# EAGLE library part 6N137 (library _motovilo)
MOTOROLA OPTO COUPLER
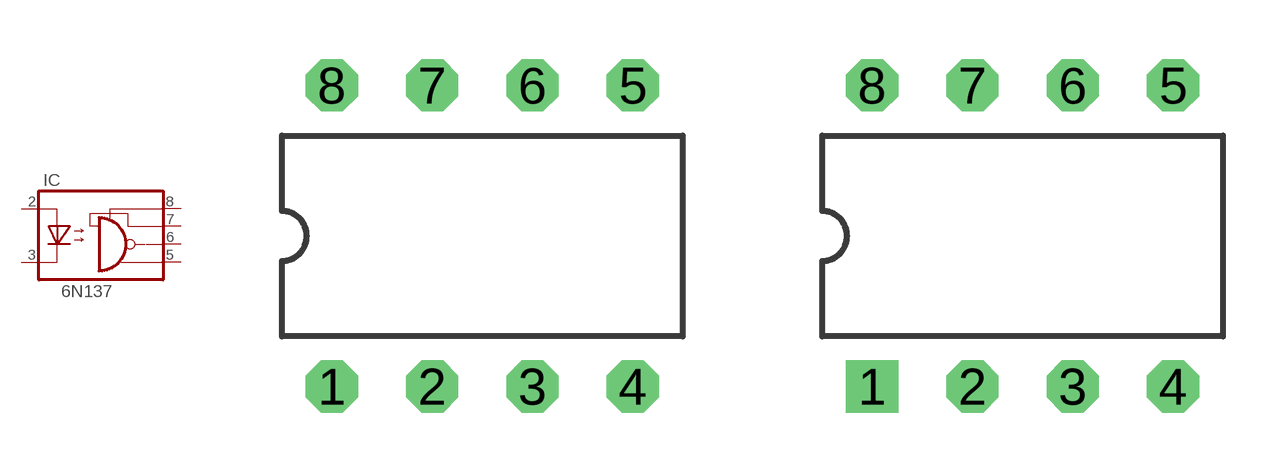
[diagram p10: symbol with the pads of DIL08; footprints DIL08, DIL08_]

Designator prefix IC

## 6N137' (MPN: 6N137; OC_FARNELL: 1328376; OC_NEWARK: 52M1895)  [DIL08]
2  A  pas
3  C  pas
5  GND  pas
6  VO  pas
7  VE  pas
8  VCC  pas

## 6N137  [DIL08_]
Pads as for DIL08

## 6N137SMD8  [SMD8]
Pads as for DIL08

## 6N137S  [SO08]
Pads as for DIL08

## Footprint DIL08 (pad centres in mm)
Dual In Line package type P
drill 0.813 octagon: 1 -3.81,-3.81; 2 -1.27,-3.81; 3 1.27,-3.81; 4 3.81,-3.81; 5 3.81,3.81; 6 1.27,3.81; 7 -1.27,3.81; 8 -3.81,3.81

## Footprint DIL08_ (pad centres in mm)
Dual In Line package type P
drill 0.813 square: 1 -3.81,-3.81
drill 0.813 octagon: 2 -1.27,-3.81; 3 1.27,-3.81; 4 3.81,-3.81; 5 3.81,3.81; 6 1.27,3.81; 7 -1.27,3.81; 8 -3.81,3.81

## Footprint SMD8 (pad centres in mm)
SMD 8
smd 1.78 x 1.55: 1 -3.81,-3.5; 2 -1.27,-3.5; 3 1.27,-3.5; 4 3.81,-3.5; 5 3.81,3.5; 6 1.27,3.5; 7 -1.27,3.5; 8 -3.81,3.5

## Footprint SO08 (pad centres in mm)
smd 0.66 x 2.032: 1 -1.905,-3.073; 2 -0.635,-3.073; 3 0.635,-3.073; 4 1.905,-3.073; 5 1.905,3.073; 6 0.635,3.073; 7 -0.635,3.073; 8 -1.905,3.073